# Altium schematic symbol library SCH - DRIVER - LED - TI LM3407MY.SchLib: 1 symbol
Pins are listed as number, name and electrical type; pins without a type are passive.

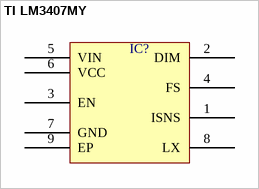
[diagram p0: symbol TI LM3407MY]

## TI LM3407MY
designator IC?  (value not drawn)
pins: 1 ISNS, 2 DIM, 3 EN, 4 FS, 5 VIN, 6 VCC, 7 GND, 8 LX, 9 EP